# EAGLE library part AFA07-S12FCA-00 (library AFA07-S12FCA-00)
FFC, FPC Connectors P=1mm RoHS Source: Datasheet <https://datasheet.lcsc.com/szlcsc/JUSHUO-AFA07-S12FCA-00_C262718.pdf>
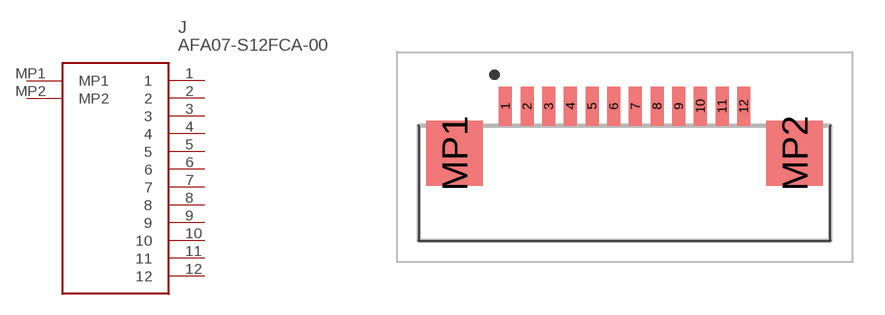
[diagram p0: symbol with the pads of AFA07S12FCA00; footprint AFA07S12FCA00]

Designator prefix J

## AFA07-S12FCA-00 (Description: FFC, FPC Connectors P=1mm RoHS; Height: 2.6mm; Manufacturer_Name: JUSHUO; Manufacturer_Part_Number: AFA07-S12FCA-00)  [AFA07S12FCA00]
1  1
2  2
3  3
4  4
5  5
6  6
7  7
8  8
9  9
10  10
11  11
12  12
MP1  MP1
MP2  MP2

## Footprint AFA07S12FCA00 (pad centres in mm)
AFA07-S12FCA-00-2
smd 0.6 x 1.8: 1 -5.5,3.1; 2 -4.5,3.1; 3 -3.5,3.1; 4 -2.5,3.1; 5 -1.5,3.1; 6 -0.5,3.1; 7 0.5,3.1; 8 1.5,3.1; 9 2.5,3.1; 10 3.5,3.1; 11 4.5,3.1; 12 5.5,3.1
smd 2.6 x 3: MP1 -7.85,0.93; MP2 7.85,0.93